# EAGLE library part MAX31855KASA+T (library MAX31855KASA+T- MAXIM INTEGRATED)
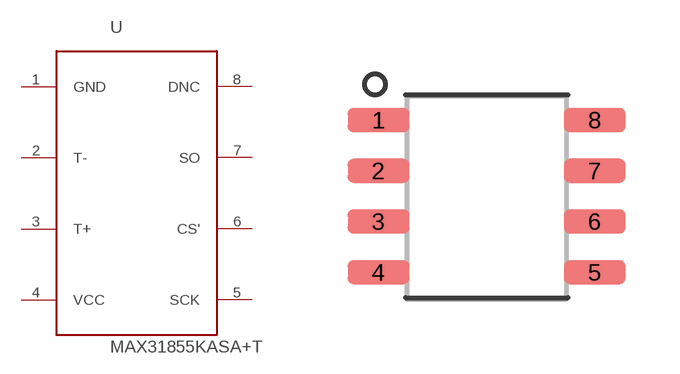
[diagram p0: symbol with the pads of 8-SOIC; footprint 8-SOIC]

Designator prefix U

## MAX31855KASA+T  [8-SOIC]
1  GND  pwr
2  T-  pas
3  T+  pas
4  VCC  pwr
5  SCK  in
6  CS'  in
7  SO  out
8  DNC  nc

## Footprint 8-SOIC (pad centres in mm)
smd 1.549 x 0.61: 1 -2.705,1.905; 2 -2.705,0.635; 3 -2.705,-0.635; 4 -2.705,-1.905; 5 2.705,-1.905; 6 2.705,-0.635; 7 2.705,0.635; 8 2.705,1.905